# Altium schematic symbol library CN_SMD_6x1.Schlib: 1 symbol
Pins are listed as number, name and electrical type; pins without a type are passive.

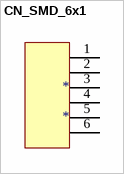
[diagram p0: symbol CN_SMD_6x1]

## CN_SMD_6x1
designator *
pins: 1, 2, 3, 4, 5, 6